# Altium schematic symbol library LTV354.SchLib: 1 symbol
Pins are listed as number, name and electrical type; pins without a type are passive.

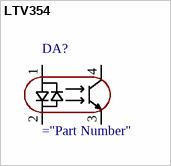
[diagram p0: symbol LTV354]

## LTV354
designator DA?
SnapEDA_Link: https://www.snapeda.com/parts/LTV816/Lite-On/view-part/?ref=snap; Check_prices: https://www.snapeda.com/parts/LTV816/Lite-On/view-part/?ref=eda; Value: *
footprint *DIP762W50P254L460H450Q4
pins: 1 A, 2 C, 3 ET, 4 CT